# EAGLE library part WE-DS_212612043 (library wurth_elektronik_passive_rev16d)
WE-DS D-SUB-Filter Connectors Bent 90° Characteristics Standard type filtered with 1000 pF High attenuation of more than 40 dB @ 180 MHz Choice of earthing metal sheet or high speed earthing clip Rated voltage: 100 VDC Rated current @ 20 ºC: 5 A Withstand voltage: 250 VRMS Insulation resistance: min. 1000 MΩ Operating temperature: –55 ºC to +125 ºC Applications Filtering of interfaces External connection to -printer -sensor -display <http://katalog.we-online.de/media/thumbs2/eisos/thb_AbsDSubFilter_abgewinkelt_pf2.jpg> Details see: http://katalog.we-online.de/en/pbs/Filter_abgewinkelt Created on 2015-05-04 2015 (C) Wurth Elektronik
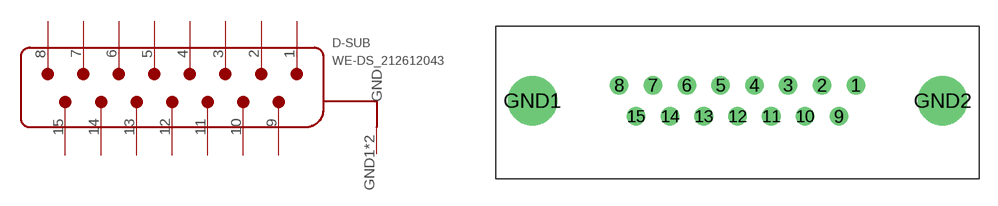
[diagram p195: symbol with the pads of WE-DS_2126120X3; footprint WE-DS_2126120X3]

Designator prefix D-SUB

## WE-DS_212612043  [WE-DS_2126120X3]
1  8
2  7
3  6
4  5
5  4
6  3
7  2
8  1
9  15
10  14
11  13
12  12
13  11
14  10
15  9
GND1  GND
GND2  GND

## Footprint WE-DS_2126120X3 (pad centres in mm)
drill 1: 1 9.6,1.27; 2 6.86,1.27; 3 4.11,1.27; 4 1.37,1.27; 5 -1.37,1.27; 6 -4.11,1.27; 7 -6.86,1.27; 8 -9.6,1.27; 9 8.23,-1.27; 10 5.48,-1.27; 11 2.74,-1.27; 12 0,-1.27; 13 -2.74,-1.27; 14 -5.48,-1.27; 15 -8.23,-1.27
drill 3: GND1 -16.65,0; GND2 16.65,0